# Altium integrated library DSPIC33FJ12MC201-E_P.IntLib: 1 symbol
Pins are listed as number, name and electrical type; pins without a type are passive.

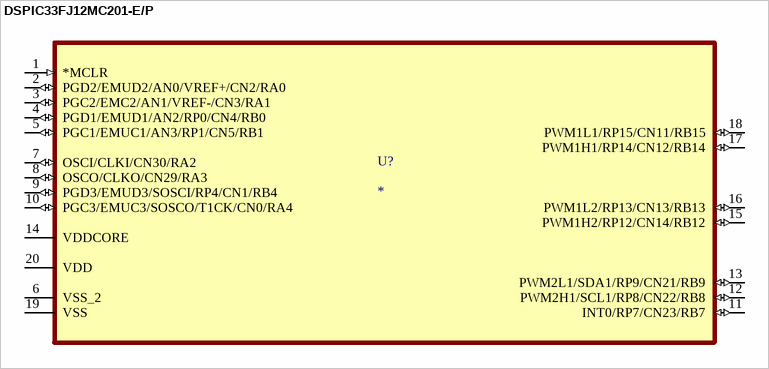
[diagram p0: symbol DSPIC33FJ12MC201-E/P]

## DSPIC33FJ12MC201-E/P
designator U?
DSC, MOTOR CTRL; MP: DSPIC33FJ12MC201-E/P; Package: None; Price: None; Value: *; Availability: Unavailable
footprint DIP254P762X533-20
pins: 1 *MCLR (in), 2 PGD2/EMUD2/AN0/VREF+/CN2/RA0 (io), 3 PGC2/EMC2/AN1/VREF-/CN3/RA1 (io), 4 PGD1/EMUD1/AN2/RP0/CN4/RB0 (io), 5 PGC1/EMUC1/AN3/RP1/CN5/RB1 (io), 6 VSS_2, 7 OSCI/CLKI/CN30/RA2 (io), 8 OSCO/CLKO/CN29/RA3 (io), 9 PGD3/EMUD3/SOSCI/RP4/CN1/RB4 (io), 10 PGC3/EMUC3/SOSCO/T1CK/CN0/RA4 (io), 11 INT0/RP7/CN23/RB7 (io), 12 PWM2H1/SCL1/RP8/CN22/RB8 (io), 13 PWM2L1/SDA1/RP9/CN21/RB9 (io), 14 VDDCORE (power), 15 PWM1H2/RP12/CN14/RB12 (io), 16 PWM1L2/RP13/CN13/RB13 (io), 17 PWM1H1/RP14/CN12/RB14 (io), 18 PWM1L1/RP15/CN11/RB15 (io), 19 VSS, 20 VDD (power)